# EAGLE library part R-745.0P (library power_supplies)
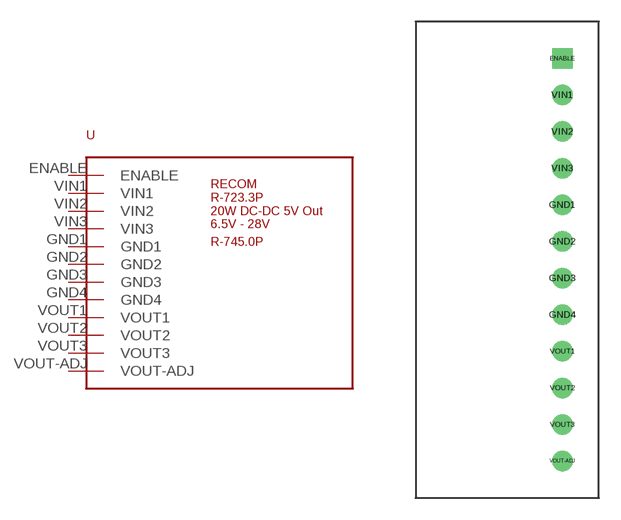
[diagram p1: symbol with the pads of SIP-12; footprint SIP-12]

Designator prefix -

## R-745.0P (DESCRIPTION: CONV DC/DC 2A 6.5-28VIN 5V; MANUFACTURER: Recom; MPN: R-725.0P)  [SIP-12]
ENABLE  ENABLE
GND1  GND1
GND2  GND2
GND3  GND3
GND4  GND4
VIN1  VIN1
VIN2  VIN2
VIN3  VIN3
VOUT1  VOUT1
VOUT2  VOUT2
VOUT3  VOUT3
VOUT-ADJ  VOUT-ADJ

## Footprint SIP-12 (pad centres in mm)
drill 0.889 pad 1.422 square: ENABLE 0,13.97
drill 0.889 pad 1.422: GND1 0,3.81; GND2 0,1.27; GND3 0,-1.27; GND4 0,-3.81; VIN1 0,11.43; VIN2 0,8.89; VIN3 0,6.35; VOUT1 0,-6.35; VOUT2 0,-8.89; VOUT3 0,-11.43; VOUT-ADJ 0,-13.97